# Altium schematic symbol library Relay.SchLib: 4 symbols
Pins are listed as number, name and electrical type; pins without a type are passive.

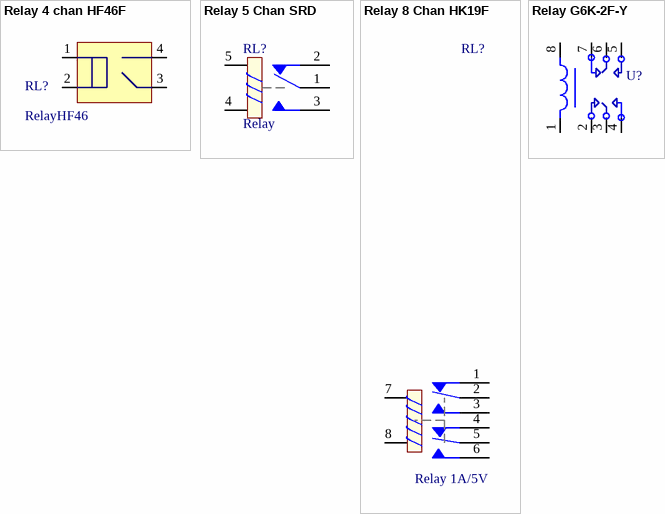
[diagram p0: symbols Relay 4 chan HF46F to Relay G6K-2F-Y]

## Relay 4 chan HF46F
designator RL?, comment RelayHF46
Relay 4 chan HF46F; Ten: Relay 5V5A HF46F-G 5-HS1; Ma_Hang: MH003879
footprint Relay 4 chan HF46F
pins: 1, 2, 3 AC/DC, 4 AC/DC

## Relay 5 Chan SRD
designator RL?, comment Relay
Relay 5 Chan; Ma_Hang: MH009374; Ten: Relay 5V10A SRD-05VDC-SL-C Chính Hãng
footprint Relay 5 Chan SRD (Footprint not found)
pins: 1, 2, 3, 4, 5

## Relay 8 Chan HK19F
designator RL?, comment Relay 1A/5V
Relay 8 Chan HK19F; Ten: Relay 5V1A 8 Chân HK19F-DC05V-SHG; Ma_Hang: MH001504
footprint Relay 8 Chan HK19F (Footprint not found)
pins: 1, 2, 3, 4, 5, 6, 7, 8

## Relay G6K-2F-Y
designator U?, comment G6K 5VDC  (value not drawn)
Cắm; Ten_Linh_Kien: G6K-2F-Y-DC5; Don_Vi: Con; Ma_Hang: G6K-2F-Y; Chung_Loai: Căm; Kieu_Chan: *; Ghi_Chu: *
footprint RELAY G6K-2F-Y (Reley DPDT, 8 pin, 1A, W400mil, L800mil,H 300mil)
pins: 1, 2, 3, 4, 5, 6, 7, 8